# EAGLE library part SSM2165 (library analog-devices)
Microphone Preamplifier with Variable Compression and Noise Gating OBSOLETE Source: http://www.analog.com/static/imported-files/data_sheets_obsolete/564647885SSM2165.pdf
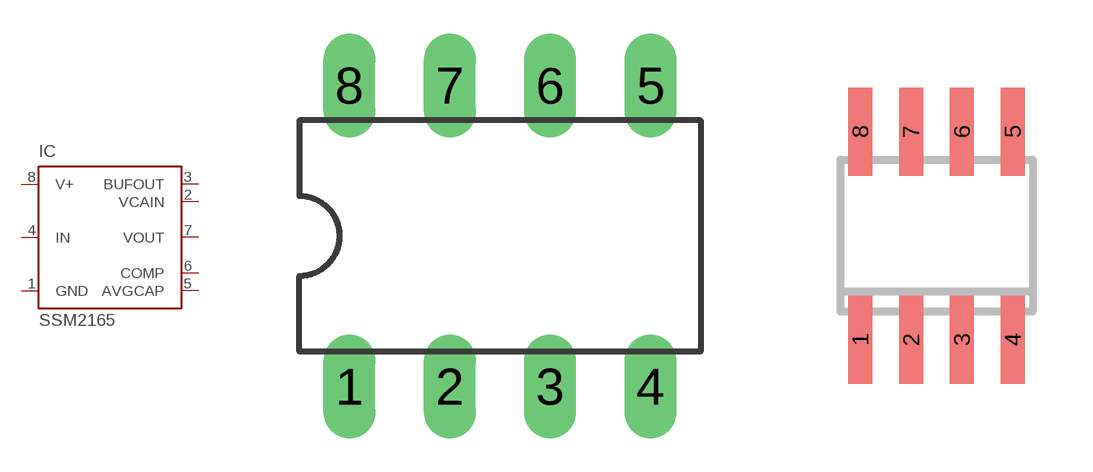
[diagram p23: symbol with the pads of DIL08; footprints DIL08, SO8]

Designator prefix IC

## SSM2165-1P (OC_FARNELL: unknown; OC_NEWARK: unknown), SSM2165-2P (OC_FARNELL: unknown; OC_NEWARK: unknown)  [DIL08]
1  GND  pwr
2  VCAIN  in
3  BUFOUT  out
4  IN  in
5  AVGCAP  pas
6  COMP  pas
7  VOUT  out
8  V+  pwr

## SSM2165-1S (OC_FARNELL: unknown; OC_NEWARK: unknown), SSM2165-2S (OC_FARNELL: unknown; OC_NEWARK: unknown)  [SO8]
Pads as for DIL08

## Footprint DIL08 (pad centres in mm)
Dual In Line Package
drill 0.813 long: 1 -3.81,-3.81; 2 -1.27,-3.81; 3 1.27,-3.81; 4 3.81,-3.81; 5 3.81,3.81; 6 1.27,3.81; 7 -1.27,3.81; 8 -3.81,3.81

## Footprint SO8 (pad centres in mm)
SMALL OUTLINE INTEGRATED CIRCUIT SOP-8L Source: http://www.diodes.com/datasheets/ds31262.pdf
smd 0.6 x 2.2: 1 -1.905,-2.6; 2 -0.635,-2.6; 3 0.635,-2.6; 4 1.905,-2.6; 5 1.905,2.6; 6 0.635,2.6; 7 -0.635,2.6; 8 -1.905,2.6